# Altium schematic symbol library TPS25730DREFR.SchLib: 1 symbol
Pins are listed as number, name and electrical type; pins without a type are passive.

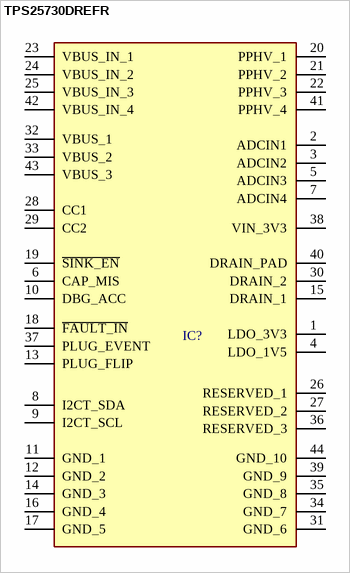
[diagram p0: symbol TPS25730DREFR]

## TPS25730DREFR
designator IC?
USB PD Controller; Manufacturer_Name: Texas Instruments; Manufacturer_Part_Number: TPS25730DREFR; Datasheet Link: https://www.ti.com/lit/ds/symlink/tps25730.pdf?ts=1707773923998&ref_url=https%253A%252F%252Fwww.mouser.at%252F; Height: 0.8mm; Mouser Part Number: 595-TPS25730DREFR; Mouser Price/Stock: https://www.mouser.co.uk/ProductDetail/Texas-Instruments/TPS25730DREFR?qs=Z%252BL2brAPG1IvmkUK7DRnBA%3D%3D; Supplier 1: Mouser; Supplier Part Number 1: 595-TPS25730DREFR
footprint TPS25730DREFR
pins: 1 LDO_3V3, 2 ADCIN1, 3 ADCIN2, 4 LDO_1V5, 5 ADCIN3, 6 CAP_MIS, 7 ADCIN4, 8 I2CT_SDA, 9 I2CT_SCL, 10 DBG_ACC, 11 GND_1, 12 GND_2, 13 PLUG_FLIP, 14 GND_3, 15 DRAIN_1, 16 GND_4, 17 GND_5, 18 ~{FAULT_IN}, 19 ~{SINK_EN}, 20 PPHV_1, 21 PPHV_2, 22 PPHV_3, 23 VBUS_IN_1, 24 VBUS_IN_2, 25 VBUS_IN_3, 26 RESERVED_1, 27 RESERVED_2, 28 CC1, 29 CC2, 30 DRAIN_2, 31 GND_6, 32 VBUS_1, 33 VBUS_2, 34 GND_7, 35 GND_8, 36 RESERVED_3, 37 PLUG_EVENT, 38 VIN_3V3, 39 GND_9, 40 DRAIN_PAD, 41 PPHV_4, 42 VBUS_IN_4, 43 VBUS_3, 44 GND_10